# EAGLE library part ADUM1250 (library FaBo-LevelTranslator)
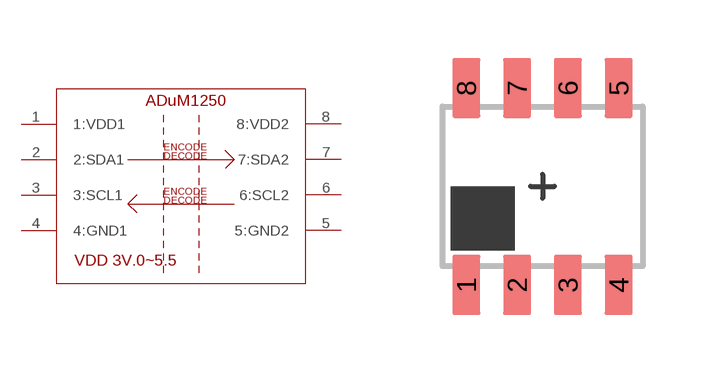
[diagram p13: symbol with the pads of SOIC_N; footprint SOIC_N]

Designator prefix -

## ADUM1250  [SOIC_N]
1  1:VDD1
2  2:SDA1
3  3:SCL1
4  4:GND1
5  5:GND2
6  6:SCL2
7  7:SDA2
8  8:VDD2

## Footprint SOIC_N (pad centres in mm)
smd 0.7 x 1.5: 1 -1.905,-2.465; 2 -0.635,-2.465; 3 0.635,-2.465; 4 1.905,-2.465; 5 1.905,2.465; 6 0.635,2.465; 7 -0.635,2.465; 8 -1.905,2.465